# EAGLE library part STC101 (library Transputers)
C101 peripheral INMOS/ST-Microelectronics Parallel DS-Link Adapter. Source: Datasheet STC101 October95 SGS-Thomson Arto Kyyhkynen, artoky@dlc.fi
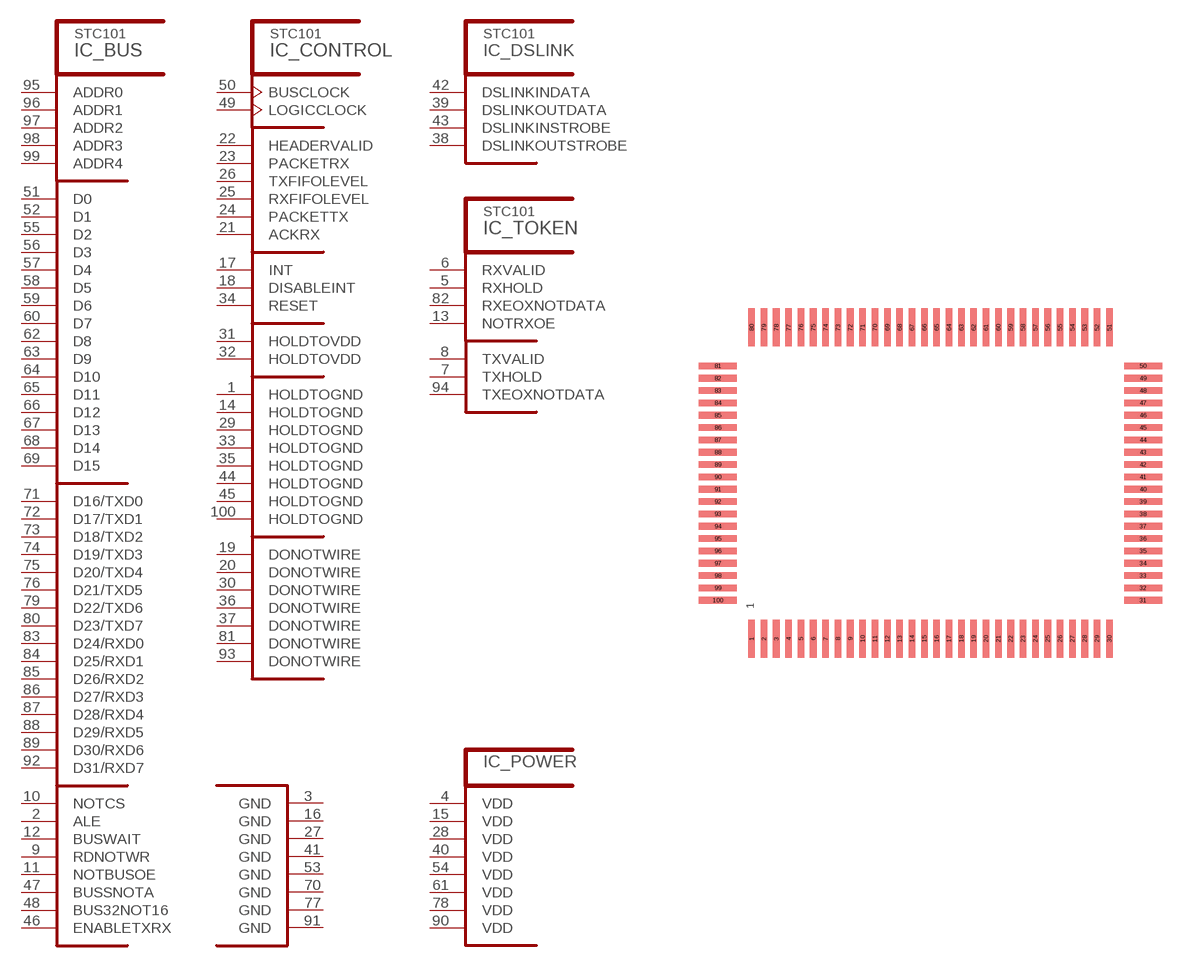
[diagram p8: symbol with the pads of CQFP100-CD; footprint CQFP100-CD]

Designator prefix IC; gates _BUS=C101_BUS _CONTROL=C101_CTR _DSLINK=C101_DSLINK _POWER=C101_SUP _TOKEN=C101_TINTERFACE

## STC101S10F  [CQFP100-CD]
1  _CONTROL:HOLDTOGND  pas
2  _BUS:ALE  in
3  _POWER:GND  pwr
4  _POWER:VDD  pwr
5  _TOKEN:RXHOLD  in
6  _TOKEN:RXVALID  out
7  _TOKEN:TXHOLD  out
8  _TOKEN:TXVALID  in
9  _BUS:RDNOTWR  in
10  _BUS:NOTCS  in
11  _BUS:NOTBUSOE  in
12  _BUS:BUSWAIT  out
13  _TOKEN:NOTRXOE  in
14  _CONTROL:HOLDTOGND  pas
15  _POWER:VDD  pwr
16  _POWER:GND  pwr
17  _CONTROL:INT  out
18  _CONTROL:DISABLEINT  in
19  _CONTROL:DONOTWIRE  nc
20  _CONTROL:DONOTWIRE  nc
21  _CONTROL:ACKRX  out
22  _CONTROL:HEADERVALID  out
23  _CONTROL:PACKETRX  out
24  _CONTROL:PACKETTX  out
25  _CONTROL:RXFIFOLEVEL  out
26  _CONTROL:TXFIFOLEVEL  out
27  _POWER:GND  pwr
28  _POWER:VDD  pwr
29  _CONTROL:HOLDTOGND  pas
30  _CONTROL:DONOTWIRE  nc
31  _CONTROL:HOLDTOVDD  pas
32  _CONTROL:HOLDTOVDD  pas
33  _CONTROL:HOLDTOGND  pas
34  _CONTROL:RESET  in
35  _CONTROL:HOLDTOGND  pas
36  _CONTROL:DONOTWIRE  nc
37  _CONTROL:DONOTWIRE  nc
38  _DSLINK:DSLINKOUTSTROBE  out
39  _DSLINK:DSLINKOUTDATA  out
40  _POWER:VDD  pwr
41  _POWER:GND  pwr
42  _DSLINK:DSLINKINDATA  in
43  _DSLINK:DSLINKINSTROBE  in
44  _CONTROL:HOLDTOGND  pas
45  _CONTROL:HOLDTOGND  pas
46  _BUS:ENABLETXRX  in
47  _BUS:BUSSNOTA  in
48  _BUS:BUS32NOT16  in
49  _CONTROL:LOGICCLOCK  in
50  _CONTROL:BUSCLOCK  in
51  _BUS:D0
52  _BUS:D1
53  _POWER:GND  pwr
54  _POWER:VDD  pwr
55  _BUS:D2
56  _BUS:D3
57  _BUS:D4
58  _BUS:D5
59  _BUS:D6
60  _BUS:D7
61  _POWER:VDD  pwr
62  _BUS:D8
63  _BUS:D9
64  _BUS:D10
65  _BUS:D11
66  _BUS:D12
67  _BUS:D13
68  _BUS:D14
69  _BUS:D15
70  _POWER:GND  pwr
71  _BUS:D16/TXD0
72  _BUS:D17/TXD1
73  _BUS:D18/TXD2
74  _BUS:D19/TXD3
75  _BUS:D20/TXD4
76  _BUS:D21/TXD5
77  _POWER:GND  pwr
78  _POWER:VDD  pwr
79  _BUS:D22/TXD6
80  _BUS:D23/TXD7
81  _CONTROL:DONOTWIRE  nc
82  _TOKEN:RXEOXNOTDATA  out
83  _BUS:D24/RXD0
84  _BUS:D25/RXD1
85  _BUS:D26/RXD2
86  _BUS:D27/RXD3
87  _BUS:D28/RXD4
88  _BUS:D29/RXD5
89  _BUS:D30/RXD6
90  _POWER:VDD  pwr
91  _POWER:GND  pwr
92  _BUS:D31/RXD7
93  _CONTROL:DONOTWIRE  nc
94  _TOKEN:TXEOXNOTDATA  in
95  _BUS:ADDR0  in
96  _BUS:ADDR1  in
97  _BUS:ADDR2  in
98  _BUS:ADDR3  in
99  _BUS:ADDR4  in
100  _CONTROL:HOLDTOGND  pas

## Footprint CQFP100-CD (pad centres in mm)
Cavity Down Ceramic Quad Flat Pack INMOS/ST-Microelectronics
smd 0.35 x 2: 1 -9.425,-8.2; 2 -8.775,-8.2; 3 -8.125,-8.2; 4 -7.475,-8.2; 5 -6.825,-8.2; 6 -6.175,-8.2; 7 -5.525,-8.2; 8 -4.875,-8.2; 9 -4.225,-8.2; 10 -3.575,-8.2; 11 -2.925,-8.2; 12 -2.275,-8.2; 13 -1.625,-8.2; 14 -0.975,-8.2; 15 -0.325,-8.2; 16 0.325,-8.2; 17 0.975,-8.2; 18 1.625,-8.2; 19 2.275,-8.2; 20 2.925,-8.2; 21 3.575,-8.2; 22 4.225,-8.2; 23 4.875,-8.2; 24 5.525,-8.2; 25 6.175,-8.2; 26 6.825,-8.2; 27 7.475,-8.2; 28 8.125,-8.2; 29 8.775,-8.2; 30 9.425,-8.2; 51 9.425,8.2; 52 8.775,8.2; 53 8.125,8.2; 54 7.475,8.2; 55 6.825,8.2; 56 6.175,8.2; 57 5.525,8.2; 58 4.875,8.2; 59 4.225,8.2; 60 3.575,8.2; 61 2.925,8.2; 62 2.275,8.2; 63 1.625,8.2; 64 0.975,8.2; 65 0.325,8.2; 66 -0.325,8.2; 67 -0.975,8.2; 68 -1.625,8.2; 69 -2.275,8.2; 70 -2.925,8.2; 71 -3.575,8.2; 72 -4.225,8.2; 73 -4.875,8.2; 74 -5.525,8.2; 75 -6.175,8.2; 76 -6.825,8.2; 77 -7.475,8.2; 78 -8.125,8.2; 79 -8.775,8.2; 80 -9.425,8.2
smd 2 x 0.35: 31 11.2,-6.175; 32 11.2,-5.525; 33 11.2,-4.875; 34 11.2,-4.225; 35 11.2,-3.575; 36 11.2,-2.925; 37 11.2,-2.275; 38 11.2,-1.625; 39 11.2,-0.975; 40 11.2,-0.325; 41 11.2,0.325; 42 11.2,0.975; 43 11.2,1.625; 44 11.2,2.275; 45 11.2,2.925; 46 11.2,3.575; 47 11.2,4.225; 48 11.2,4.875; 49 11.2,5.525; 50 11.2,6.175; 81 -11.2,6.175; 82 -11.2,5.525; 83 -11.2,4.875; 84 -11.2,4.225; 85 -11.2,3.575; 86 -11.2,2.925; 87 -11.2,2.275; 88 -11.2,1.625; 89 -11.2,0.975; 90 -11.2,0.325; 91 -11.2,-0.325; 92 -11.2,-0.975; 93 -11.2,-1.625; 94 -11.2,-2.275; 95 -11.2,-2.925; 96 -11.2,-3.575; 97 -11.2,-4.225; 98 -11.2,-4.875; 99 -11.2,-5.525; 100 -11.2,-6.175